# Altium footprint library PH_2x80_pitch1.27mm.PcbLib: 1 footprints
Each footprint in its own frame and in the unit in brackets; x right, y up, seen from the top. Pads: shape width x height; smd on the part's side, far side on the other; paste and mask are expansions set on the pad; w line width, h text height; cw(c..) or ccw(c..) is an arc to the next point about the centre after c.
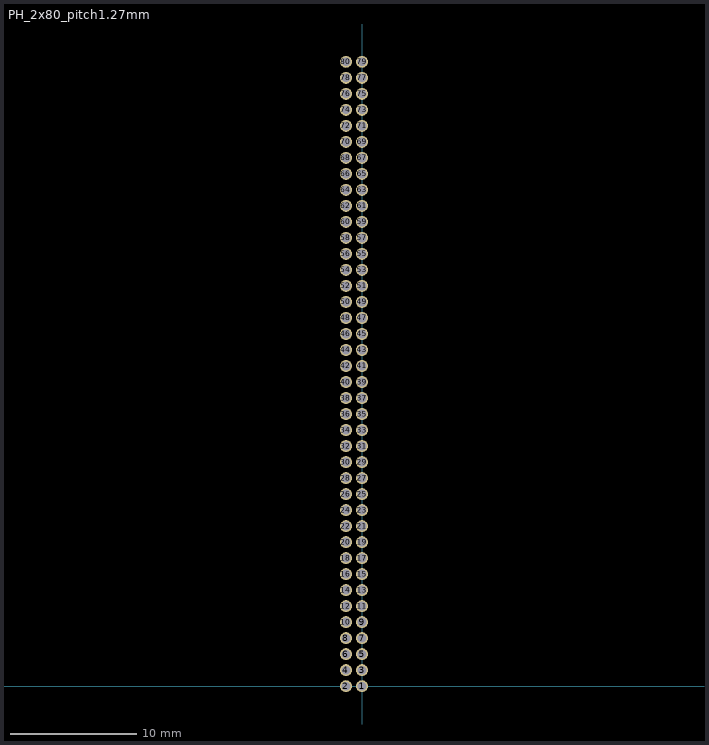
[diagram p0: the footprint, top view; thin cyan lines are the x and y axes]

## PH_2x80_pitch1.27mm [mm]
pads (80):
  round 0.95 hole 0.7: 1(0,0) 2(-1.27,0) 3(0,1.27) 4(-1.27,1.27) 5(0,2.54) 6(-1.27,2.54) 7(0,3.81) 8(-1.27,3.81) 9(0,5.08) 10(-1.27,5.08) 11(0,6.35) 12(-1.27,6.35) 13(0,7.62) 14(-1.27,7.62) 15(0,8.89) 16(-1.27,8.89) 17(0,10.16) 18(-1.27,10.16) 19(0,11.43) 20(-1.27,11.43) 21(0,12.7) 22(-1.27,12.7) 23(0,13.97) 24(-1.27,13.97) 25(0,15.24) 26(-1.27,15.24) 27(0,16.51) 28(-1.27,16.51) 29(0,17.78) 30(-1.27,17.78) 31(0,19.05) 32(-1.27,19.05) 33(0,20.32) 34(-1.27,20.32) 35(0,21.59) 36(-1.27,21.59) 37(0,22.86) 38(-1.27,22.86) 39(0,24.13) 40(-1.27,24.13) 41(0,25.4) 42(-1.27,25.4) 43(0,26.67) 44(-1.27,26.67) 45(0,27.94) 46(-1.27,27.94) 47(0,29.21) 48(-1.27,29.21) 49(0,30.48) 50(-1.27,30.48) 51(0,31.75) 52(-1.27,31.75) 53(0,33.02) 54(-1.27,33.02) 55(0,34.29) 56(-1.27,34.29) 57(0,35.56) 58(-1.27,35.56) 59(0,36.83) 60(-1.27,36.83) 61(0,38.1) 62(-1.27,38.1) 63(0,39.37) 64(-1.27,39.37) 65(0,40.64) 66(-1.27,40.64) 67(0,41.91) 68(-1.27,41.91) 69(0,43.18) 70(-1.27,43.18) 71(0,44.45) 72(-1.27,44.45) 73(0,45.72) 74(-1.27,45.72) 75(0,46.99) 76(-1.27,46.99) 77(0,48.26) 78(-1.27,48.26) 79(0,49.53) 80(-1.27,49.53)
3D body "pin_header_a-sl127-eg-g02d.stp": height 5.34, standoff -2.6, extent -1.25,-0.635 1.25,1.905
3D body "pin_header_a-sl127-eg-g02d.stp": height 5.34, standoff -2.6, extent -2.52,-0.635 -0.02,1.905
3D body "pin_header_a-sl127-eg-g02d.stp": height 5.34, standoff -2.6, extent -1.25,1.905 1.25,4.445
3D body "pin_header_a-sl127-eg-g02d.stp": height 5.34, standoff -2.6, extent -2.52,1.905 -0.02,4.445
3D body "pin_header_a-sl127-eg-g02d.stp": height 5.34, standoff -2.6, extent -1.25,4.445 1.25,6.985
3D body "pin_header_a-sl127-eg-g02d.stp": height 5.34, standoff -2.6, extent -2.52,4.445 -0.02,6.985
3D body "pin_header_a-sl127-eg-g02d.stp": height 5.34, standoff -2.6, extent -1.25,6.985 1.25,9.525
3D body "pin_header_a-sl127-eg-g02d.stp": height 5.34, standoff -2.6, extent -2.52,6.985 -0.02,9.525
3D body "pin_header_a-sl127-eg-g02d.stp": height 5.34, standoff -2.6, extent -1.25,9.525 1.25,12.065
3D body "pin_header_a-sl127-eg-g02d.stp": height 5.34, standoff -2.6, extent -2.52,9.525 -0.02,12.065
3D body "pin_header_a-sl127-eg-g02d.stp": height 5.34, standoff -2.6, extent -1.25,12.065 1.25,14.605
3D body "pin_header_a-sl127-eg-g02d.stp": height 5.34, standoff -2.6, extent -2.52,12.065 -0.02,14.605
3D body "pin_header_a-sl127-eg-g02d.stp": height 5.34, standoff -2.6, extent -1.25,14.605 1.25,17.145
3D body "pin_header_a-sl127-eg-g02d.stp": height 5.34, standoff -2.6, extent -2.52,14.605 -0.02,17.145
3D body "pin_header_a-sl127-eg-g02d.stp": height 5.34, standoff -2.6, extent -1.25,17.145 1.25,19.685
3D body "pin_header_a-sl127-eg-g02d.stp": height 5.34, standoff -2.6, extent -2.52,17.145 -0.02,19.685
3D body "pin_header_a-sl127-eg-g02d.stp": height 5.34, standoff -2.6, extent -1.25,19.685 1.25,22.225
3D body "pin_header_a-sl127-eg-g02d.stp": height 5.34, standoff -2.6, extent -2.52,19.685 -0.02,22.225
3D body "pin_header_a-sl127-eg-g02d.stp": height 5.34, standoff -2.6, extent -1.25,22.225 1.25,24.765
3D body "pin_header_a-sl127-eg-g02d.stp": height 5.34, standoff -2.6, extent -2.52,22.225 -0.02,24.765
3D body "pin_header_a-sl127-eg-g02d.stp": height 5.34, standoff -2.6, extent -1.25,24.765 1.25,27.305
3D body "pin_header_a-sl127-eg-g02d.stp": height 5.34, standoff -2.6, extent -2.52,24.765 -0.02,27.305
3D body "pin_header_a-sl127-eg-g02d.stp": height 5.34, standoff -2.6, extent -1.25,27.305 1.25,29.845
3D body "pin_header_a-sl127-eg-g02d.stp": height 5.34, standoff -2.6, extent -2.52,27.305 -0.02,29.845
3D body "pin_header_a-sl127-eg-g02d.stp": height 5.34, standoff -2.6, extent -1.25,29.845 1.25,32.385
3D body "pin_header_a-sl127-eg-g02d.stp": height 5.34, standoff -2.6, extent -2.52,29.845 -0.02,32.385
3D body "pin_header_a-sl127-eg-g02d.stp": height 5.34, standoff -2.6, extent -1.25,32.385 1.25,34.925
3D body "pin_header_a-sl127-eg-g02d.stp": height 5.34, standoff -2.6, extent -2.52,32.385 -0.02,34.925
3D body "pin_header_a-sl127-eg-g02d.stp": height 5.34, standoff -2.6, extent -1.25,34.925 1.25,37.465
3D body "pin_header_a-sl127-eg-g02d.stp": height 5.34, standoff -2.6, extent -2.52,34.925 -0.02,37.465
3D body "pin_header_a-sl127-eg-g02d.stp": height 5.34, standoff -2.6, extent -1.25,37.465 1.25,40.005
3D body "pin_header_a-sl127-eg-g02d.stp": height 5.34, standoff -2.6, extent -2.52,37.465 -0.02,40.005
3D body "pin_header_a-sl127-eg-g02d.stp": height 5.34, standoff -2.6, extent -1.25,40.005 1.25,42.545
3D body "pin_header_a-sl127-eg-g02d.stp": height 5.34, standoff -2.6, extent -2.52,40.005 -0.02,42.545
3D body "pin_header_a-sl127-eg-g02d.stp": height 5.34, standoff -2.6, extent -1.25,42.545 1.25,45.085
3D body "pin_header_a-sl127-eg-g02d.stp": height 5.34, standoff -2.6, extent -2.52,42.545 -0.02,45.085
3D body "pin_header_a-sl127-eg-g02d.stp": height 5.34, standoff -2.6, extent -1.25,45.085 1.25,47.625
3D body "pin_header_a-sl127-eg-g02d.stp": height 5.34, standoff -2.6, extent -2.52,45.085 -0.02,47.625
3D body "pin_header_a-sl127-eg-g02d.stp": height 5.34, standoff -2.6, extent -2.52,47.625 -0.02,50.165
3D body "pin_header_a-sl127-eg-g02d.stp": height 5.34, standoff -2.6, extent -1.25,47.625 1.25,50.165